# Altium footprint library usmu.PcbLib: 7 footprints
Each footprint in its own frame and in the unit in brackets; x right, y up, seen from the top. Pads: shape width x height; smd on the part's side, far side on the other; paste and mask are expansions set on the pad; w line width, h text height; cw(c..) or ccw(c..) is an arc to the next point about the centre after c.
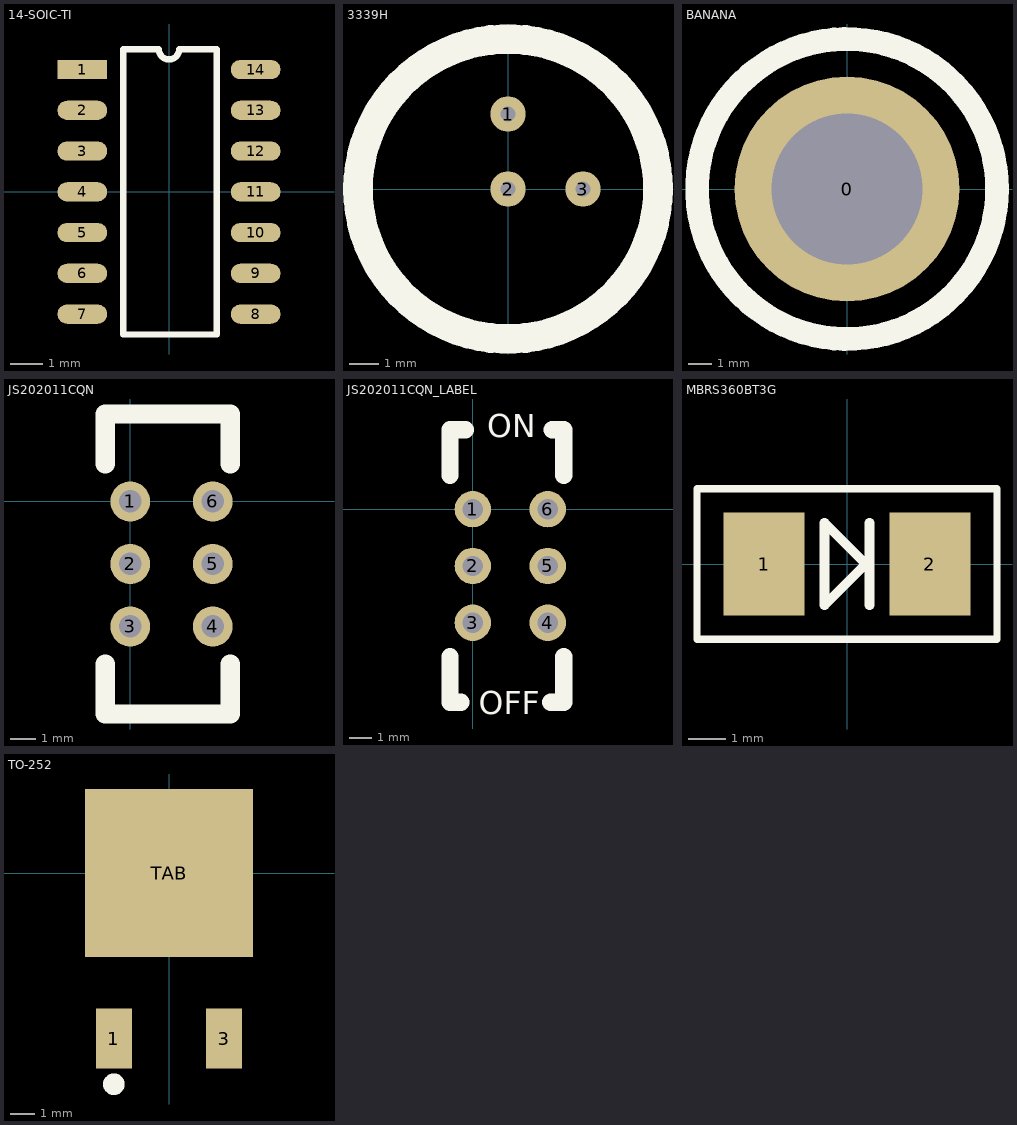
[diagram p0: the footprints below, top view; thin cyan lines are the x and y axes]

## 14-SOIC-TI [mm]
pads (14):
  rect 1.55x0.6 smd: 1(-2.7,3.81)
  oval 1.55x0.6 smd: 2(-2.7,2.54) 3(-2.7,1.27) 4(-2.7,0) 5(-2.7,-1.27) 6(-2.7,-2.54) 7(-2.7,-3.81) 8(2.7,-3.81) 9(2.7,-2.54) 10(2.7,-1.27) 11(2.7,0) 12(2.7,1.27) 13(2.7,2.54) 14(2.7,3.81)
Top Overlay:
  lines w0.2: -1.43,-4.445 -1.43,4.445 -0.318,4.445 ccw(c0,4.445) 0.318,4.445 1.491,4.445 1.491,-4.445 -1.43,-4.445

## 3339H [mm] "Bourns 4-turn Trimpot"
pads (3):
  round 1.2 hole 0.5: 1(0,2.54) 2(0,0) 3(2.54,0)
Top Overlay:
  circle w1: c0,0 r5.08

## BANANA [mil]
pads (1):
  round 375 hole 251: 0(0,0)
Top Overlay:
  circle w39.37: c0,0 r250

## JS202011CQN [mm] "DPDT SWITCH"
pads (6):
  round 1.6 hole 0.9: 1(0,0) 2(0,-2.5) 3(0,-5) 4(3.3,-5) 5(3.3,-2.5) 6(3.3,0)
Top Overlay:
  lines w0.762: -1,-6.5 -1,-8.5 4,-8.5 4,-6.5 ; -1,1.5 -1,3.5 4,3.5 4,1.5

## JS202011CQN_LABEL [mm] "DPDT SWITCH"
pads (6):
  round 1.6 hole 0.9: 1(0,0) 2(0,-2.5) 3(0,-5) 4(3.3,-5) 5(3.3,-2.5) 6(3.3,0)
Top Overlay:
  lines w0.762: -1,-6.5 -1,-8.5 -0.517,-8.5 ; -1,1.5 -1,3.5 -0.325,3.5 ; 3.438,-8.5 4,-8.5 4,-6.5 ; 3.5,3.5 4,3.5 4,1.5
  text "OFF" at 0.254,-9.017 h1.02
  text "ON" at 0.635,3.175 h1.02

## MBRS360BT3G [mm]
pads (2):
  rect 2.159x2.743 smd: 1(-2.21,0) 2(2.21,0)
Top Overlay:
  lines w0.2: -4,-2 4,-2 4,2 -4,2 -4,-0.418 -4,-2
  lines w0.254: 0.6,-1.1 0.6,1.1 ; -0.6,-1.1 0.5,0 -0.6,1.1 -0.6,-1.1

## TO-252 [mm]
pads (3):
  rect 1.5x2.5 smd: 1(-2.3,-6.9) 3(2.3,-6.9)
  rect 7x7 smd: TAB(0,0)
Top Overlay:
  circle w0.5: c-2.3,-8.8 r0.2